# Altium footprint library JLINK V8_V1.PcbLib: 13 footprints
Each footprint in its own frame and in the unit in brackets; x right, y up, seen from the top. Pads: shape width x height; smd on the part's side, far side on the other; paste and mask are expansions set on the pad; w line width, h text height; cw(c..) or ccw(c..) is an arc to the next point about the centre after c.
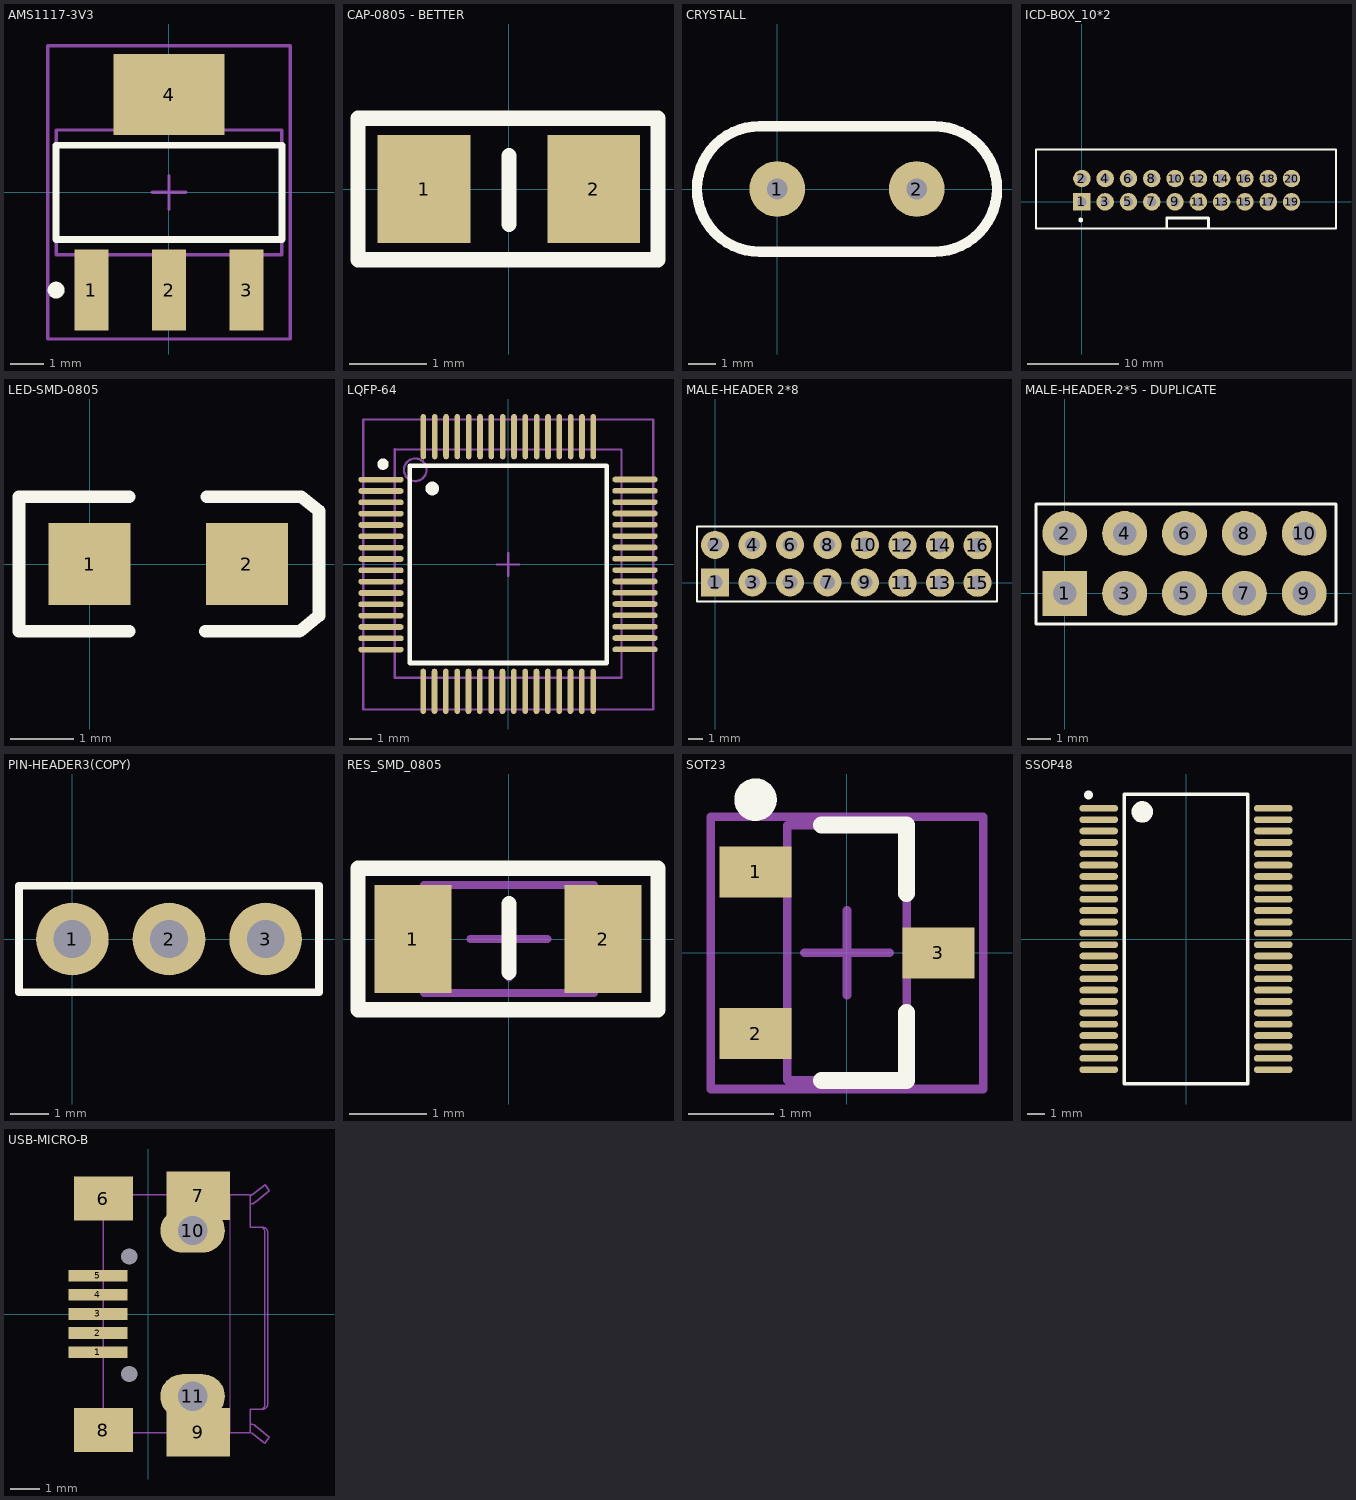
[diagram p0: the footprints below, top view; thin cyan lines are the x and y axes]

## AMS1117-3V3 [mm]
pads (4):
  rect 1x2.4 smd: 1(-2.3,-2.9) 2(0,-2.9) 3(2.3,-2.9)
  rect 3.3x2.4 smd: 4(0,2.9)
Top Overlay:
  circle w0.25: c-3.35,-2.9 r0.125
  lines w0.2: -3.35,-1.4 -3.35,1.4 3.35,1.4 3.35,-1.4 -3.35,-1.4
Mechanical 13:
  lines w0.1: -3.35,-1.85 -3.35,1.85 3.35,1.85 3.35,-1.85 -3.35,-1.85
Mechanical 15:
  lines w0.1: -0.5,0 0.5,0 ; 0,-0.5 0,0.5 ; -3.6,-4.35 -3.6,4.35 3.6,4.35 3.6,-4.35 -3.6,-4.35
3D body "TO-223.STEP": height 1.64, standoff -0.04, extent -3.242,-3.49 3.242,3.49

## CAP-0805 - BETTER [mm]
pads (2):
  rect 1.2x1.4 smd: 1(-1.1,0) 2(1.1,0)
Top Overlay:
  lines w0.2: 0,-0.457 0,0.432 ; -1.956,-0.914 -1.956,0.914 1.93,0.914 1.93,-0.914 -1.956,-0.914
3D body "cap 0805.STEP": height 0.65, standoff 0, extent -1.042,-0.635 0.99,0.635

## CRYSTALL [mil]
pads (2):
  round 80 hole 30: 1(0,0) 2(200,0)
Top Overlay:
  lines w15: -25,-90 cw(c-25,0) -25,90 225,90 cw(c225,0) 225,-90 -25,-90
3D body "Cristal.STEP": height 137.8, standoff -157.48, extent -123.29,-90.42 323.56,92.66

## ICD-BOX_10*2 [mil]
pads (20):
  rect 75x75 hole 39: 1(0,0)
  round 75 hole 39: 2(0,100) 3(100,0) 4(100,100) 5(200,0) 6(200,100) 7(300,0) 8(300,100) 9(400,0) 10(400,100) 11(500,0) 12(500,100) 13(600,0) 14(600,100) 15(700,0) 16(700,100) 17(800,0) 18(800,100) 19(900,0) 20(900,100)
Top Overlay:
  circle w9.84: c-5,-78 r4.92
  lines w7.87: -197,-114 1091,-114 1091,224 -197,224 -197,-114
  lines w12: 364.04,-108.99 364.04,-68.99 544.04,-68.99 544.04,-108.99
3D body "User Library-idc-20_asm.STEP": height 350, standoff -130.31, extent -195.7,-112 1091.7,222.64

## LED-SMD-0805 [mm]
pads (2):
  rect 1.3x1.3 smd: 1(0,0) 2(2.489,0)
Top Overlay:
  lines w0.2: 0.623,-1.067 -1.118,-1.067 -1.118,1.067 0.623,1.067 ; 1.829,-1.067 3.321,-1.067 3.632,-0.818 3.632,0.838 3.346,1.067 1.854,1.067
3D body "User Library-led805.STEP": height 1.1, standoff -0.01, extent 0.229,-0.635 2.261,0.635

## LQFP-64 [mm]
pads (64):
  oval 2x0.25 smd: 1(-5.613,3.741) 2(-5.613,3.241) 3(-5.613,2.741) 4(-5.613,2.241) 5(-5.613,1.741) 6(-5.613,1.241) 7(-5.613,0.741) 8(-5.613,0.241) 9(-5.613,-0.259) 10(-5.613,-0.759) 11(-5.613,-1.259) 12(-5.613,-1.759) 13(-5.613,-2.259) 14(-5.613,-2.759) 15(-5.613,-3.259) 16(-5.613,-3.759) 33(5.601,-3.75) 34(5.601,-3.25) 35(5.601,-2.75) 36(5.601,-2.25) 37(5.601,-1.75) 38(5.601,-1.25) 39(5.601,-0.75) 40(5.601,-0.25) 41(5.601,0.25) 42(5.601,0.75) 43(5.601,1.25) 44(5.601,1.75) 45(5.601,2.25) 46(5.601,2.75) 47(5.601,3.25) 48(5.601,3.75)
  oval 0.25x2 smd: 17(-3.75,-5.601) 18(-3.25,-5.601) 19(-2.75,-5.601) 20(-2.25,-5.601) 21(-1.75,-5.601) 22(-1.25,-5.601) 23(-0.75,-5.601) 24(-0.25,-5.601) 25(0.25,-5.601) 26(0.75,-5.601) 27(1.25,-5.601) 28(1.75,-5.601) 29(2.25,-5.601) 30(2.75,-5.601) 31(3.25,-5.601) 32(3.75,-5.601) 49(3.761,5.639) 50(3.261,5.639) 51(2.761,5.639) 52(2.261,5.639) 53(1.761,5.639) 54(1.261,5.639) 55(0.761,5.639) 56(0.261,5.639) 57(-0.239,5.639) 58(-0.739,5.639) 59(-1.239,5.639) 60(-1.739,5.639) 61(-2.239,5.639) 62(-2.739,5.639) 63(-3.239,5.639) 64(-3.739,5.639)
Top Overlay:
  circle w0.4: c-3.35,3.35 r0.1
  circle w0.25: c-5.525,4.425 r0.125
  lines w0.2: -4.35,-4.35 4.35,-4.35 4.35,4.35 -4.35,4.35 -4.35,-4.35
Mechanical 13:
  circle w0.1: c-4.1,4.176 r0.5
  lines w0.1: -5,5.076 5,5.076 ; -5,5.08 -5,-5 5,-5 5,5.055
Mechanical 15:
  lines w0.1: -0.5,0 0.5,0 ; 0,-0.5 0,0.5 ; -6.4,-6.4 6.4,-6.4 6.4,6.4 -6.4,6.4 -6.4,-6.4
3D body "LQFP-64 _ AT91SAM7S64.STEP": height 1.7, standoff -0.01, extent -6,-6 6,6

## MALE-HEADER 2*8 [mil]
pads (16):
  rect 75x75 hole 39: 1(0,1)
  round 75 hole 39: 2(0,101) 3(100,1) 4(100,101) 5(200,1) 6(200,101) 7(300,1) 8(300,101) 9(400,1) 10(400,101) 11(500,0) 12(500,100) 13(600,0) 14(600,100) 15(700,0) 16(700,100)
Top Overlay:
  lines w5: -48,-50 -48,150 752,150 752,-50 -48,-50
3D body "65777.stp": height 336.22, standoff -118.11, extent -48,-51 52,149
3D body "65777.stp": height 336.22, standoff -118.11, extent 352,-51 452,149
3D body "65777.stp": height 336.22, standoff -118.11, extent 252,-50.99 352,149.01
3D body "65777.stp": height 336.22, standoff -118.11, extent 152,-51 252,149
3D body "65777.stp": height 336.22, standoff -118.11, extent 52,-50.99 152,149.01
3D body "65777.stp": height 336.22, standoff -118.11, extent 452,-51 552,149
3D body "65777.stp": height 336.22, standoff -118.11, extent 552,-51 652,149
3D body "65777.stp": height 336.22, standoff -118.11, extent 652,-51 752,149

## MALE-HEADER-2*5 - DUPLICATE [mil]
pads (10):
  rect 75x75 hole 39: 1(0,0)
  round 75 hole 39: 2(0,100) 3(100,0) 4(100,100) 5(200,0) 6(200,100) 7(300,0) 8(300,100) 9(400,0) 10(400,100)
Top Overlay:
  lines w5: -48,-51 -48,149 453,149 453,-51 -48,-51
3D body "65777.stp": height 336.22, standoff -118.11, extent -48,-52 52,148
3D body "65777.stp": height 336.22, standoff -118.11, extent 352,-52 452,148
3D body "65777.stp": height 336.22, standoff -118.11, extent 252,-51.99 352,148.01
3D body "65777.stp": height 336.22, standoff -118.11, extent 152,-52 252,148
3D body "65777.stp": height 336.22, standoff -118.11, extent 52,-51.99 152,148.01

## PIN-HEADER3(COPY) [mil]
pads (3):
  round 75 hole 39: 1(0,0) 2(100,0) 3(200,0)
Top Overlay:
  lines w7.87: -55.12,-55.12 -55.12,55.12 255.12,55.12 255.12,-55.12 -55.12,-55.12
3D body "Header3.STEP": height 330, standoff -100, extent -49,-49 251,51

## RES_SMD_0805 [mm]
height 0.6
pads (2):
  rect 1x1.4 smd: 1(-1.245,0) 2(1.219,0)
Top Overlay:
  lines w0.2: 0,-0.432 0,0.457 ; -1.956,-0.914 1.93,-0.914 1.93,0.914 -1.956,0.914 -1.956,-0.914
Mechanical 13:
  lines w0.1: -1.1,-0.7 1.1,-0.7 1.1,0.7 -1.1,0.7 -1.1,-0.7
Mechanical 15:
  lines w0.1: -0.5,0 0.5,0 ; 0,-0.5 0,0.5
3D body "0805.STEP": height 0.6, standoff 0, extent -1.004,-0.635 1.028,0.635

## SOT23 [mm]
pads (3):
  rect 0.85x0.6 smd: 1(-1.075,0.95) 2(-1.075,-0.95) 3(1.075,0)
Top Overlay:
  circle w0.25: c-1.075,1.8 r0.125
  lines w0.2: -0.3,-1.5 0.7,-1.5 0.7,-0.7 ; -0.3,1.5 0.7,1.5 0.7,0.7
Mechanical 13:
  lines w0.1: -0.7,-1.5 0.7,-1.5 0.7,1.5 -0.7,1.5 -0.7,-1.5
Mechanical 15:
  lines w0.1: -0.5,0 0.5,0 ; 0,-0.5 0,0.5 ; -1.6,-1.6 1.6,-1.6 1.6,1.6 -1.6,1.6 -1.6,-1.6
3D body "CircuitWorks-SOT-23.STEP": height 1.05, standoff -0.05, extent -1.275,-1.5 1.225,1.5

## SSOP48 [mil]
pads (48):
  oval 85x15 smd: 1(-192,287.5) 2(-192,262.5) 3(-192,237.5) 4(-192,212.5) 5(-192,187.5) 6(-192,162.5) 7(-192,137.5) 8(-192,112.5) 9(-192,87.5) 10(-192,62.5) 11(-192,37.5) 12(-192,12.5) 13(-192,-12.5) 14(-192,-37.5) 15(-192,-62.5) 16(-192,-87.5) 17(-192,-112.5) 18(-192,-137.5) 19(-192,-162.5) 20(-192,-187.5) 21(-192,-212.5) 22(-192,-237.5) 23(-192,-262.5) 24(-192,-287.5) 25(192,-287.5) 26(192,-262.5) 27(192,-237.5) 28(192,-212.5) 29(192,-187.5) 30(192,-162.5) 31(192,-137.5) 32(192,-112.5) 33(192,-87.5) 34(192,-62.5) 35(192,-37.5) 36(192,-12.5) 37(192,12.5) 38(192,37.5) 39(192,62.5) 40(192,87.5) 41(192,112.5) 42(192,137.5) 43(192,162.5) 44(192,187.5) 45(192,212.5) 46(192,237.5) 47(192,262.5) 48(192,287.5)
Top Overlay:
  lines w7.8: -135.8,-318.9 135.8,-318.9 135.8,318.9 -135.8,318.9 -135.8,-318.9
  lines w9.8: -219.4,316.7 -219.3,315.9 -219.1,315.1 -218.7,314.3 -218,313.5 -217.2,312.8 -216.4,312.4 -215.6,312.1 -214.8,312 -214.5,312 -214.2,312 -213.4,312.1 -212.6,312.4 -211.8,312.8 -211,313.5 -210.3,314.3 -209.9,315.1 -209.7,315.9 -209.6,316.7 -209.6,316.9 -209.6,317.1 -209.7,317.9 -209.9,318.7 -210.3,319.5 -211,320.3 -211.8,321 -212.6,321.4 -213.4,321.7 -214.2,321.8 -214.5,321.8 -214.8,321.8 -215.6,321.7 -216.4,321.4 -217.2,321 -218,320.3 -218.7,319.5 -219.1,318.7 -219.3,317.9 -219.4,317.1 -219.4,316.9 -219.4,316.7
  lines w23.6: -108.2,278.9 -107.9,277 -107.3,275.1 -106.4,273.2 -104.9,271.3 -103,269.7 -101.1,268.7 -99.2,268 -97.3,267.7 -96.4,267.7 -95.5,267.7 -93.6,268 -91.7,268.7 -89.8,269.7 -87.9,271.3 -86.4,273.2 -85.5,275.1 -84.9,277 -84.6,278.9 -84.6,279.5 -84.6,280.1 -84.9,282 -85.5,283.9 -86.4,285.8 -87.9,287.7 -89.8,289.3 -91.7,290.3 -93.6,291 -95.5,291.3 -96.4,291.3 -97.3,291.3 -99.2,291 -101.1,290.3 -103,289.3 -104.9,287.7 -106.4,285.8 -107.3,283.9 -107.9,282 -108.2,280.1 -108.2,279.5 -108.2,278.9
3D body "User Library-SSOP-48.STEP": height 104.33, standoff -0.04, extent -204.72,-315 204.72,314.92

## USB-MICRO-B [mm]
pads (13):
  round 0 hole 0.55: 0(-0.643,-2.038) 0(-0.643,1.952)
  rect 2x0.4 smd paste-25.4 mask-25.4: 1(-1.705,-1.298) 2(-1.705,-0.648) 3(-1.705,0.002) 4(-1.705,0.652) 5(-1.705,1.302)
  rect 2x1.5 smd: 6(-1.521,3.924) 8(-1.521,-3.95)
  rect 2.159x1.651 smd: 7(1.705,4.026) 9(1.705,-4.026)
  oval 2.2x1.5 hole 1: 10(1.516,2.84) 11(1.516,-2.8)
Mechanical 1:
  lines w0: 2.776,-4.048 2.776,4.052
  lines w0.051: -1.524,-4.048 -1.524,4.052 3.476,4.052 ; -1.524,-4.044 3.476,-4.044 ; 3.476,4.054 3.476,2.956 3.876,2.956 cw(c3.876,2.756) 4.076,2.756 4.076,-3.044 cw(c3.876,-3.044) 3.876,-3.244 ; 3.481,3.746 3.49,3.746 ccw(c3.49,4) 3.65,3.802 ; 3.481,4.046 ccw(c3.481,4.191) 3.57,4.077 3.981,4.396 4.131,4.196 3.651,3.803 ; 3.565,-4.075 3.976,-4.394 4.126,-4.194 3.646,-3.801 ; 3.566,-4.075 ccw(c3.476,-4.19) 3.476,-4.044 ; 3.645,-3.801 ccw(c3.485,-3.998) 3.485,-3.744 3.476,-3.744 ; 3.876,2.956 cw(c3.726,2.756) 3.976,2.756 3.976,-3.044 cw(c3.776,-3.069) 3.877,-3.244 ; 3.476,-4.044 3.476,-3.744 ; 3.476,-3.744 3.476,-3.244 3.876,-3.244
3D body "USBFIREWIRE_COM-MCBS-DEFAULT.STEP": height 5.5, standoff -2.5, extent -0.668,-5.886 28.932,6.114
3D body "User Library-usb_port_ch.STEP": height 2.82, standoff -0.75, extent -1.995,-3.959 3.605,4.041